# Altium footprint library PcbLib1.PcbLib: 36 footprints (part 2 of 3)
Each footprint in its own frame and in the unit in brackets; x right, y up, seen from the top. Pads: shape width x height; smd on the part's side, far side on the other; paste and mask are expansions set on the pad; w line width, h text height; cw(c..) or ccw(c..) is an arc to the next point about the centre after c.
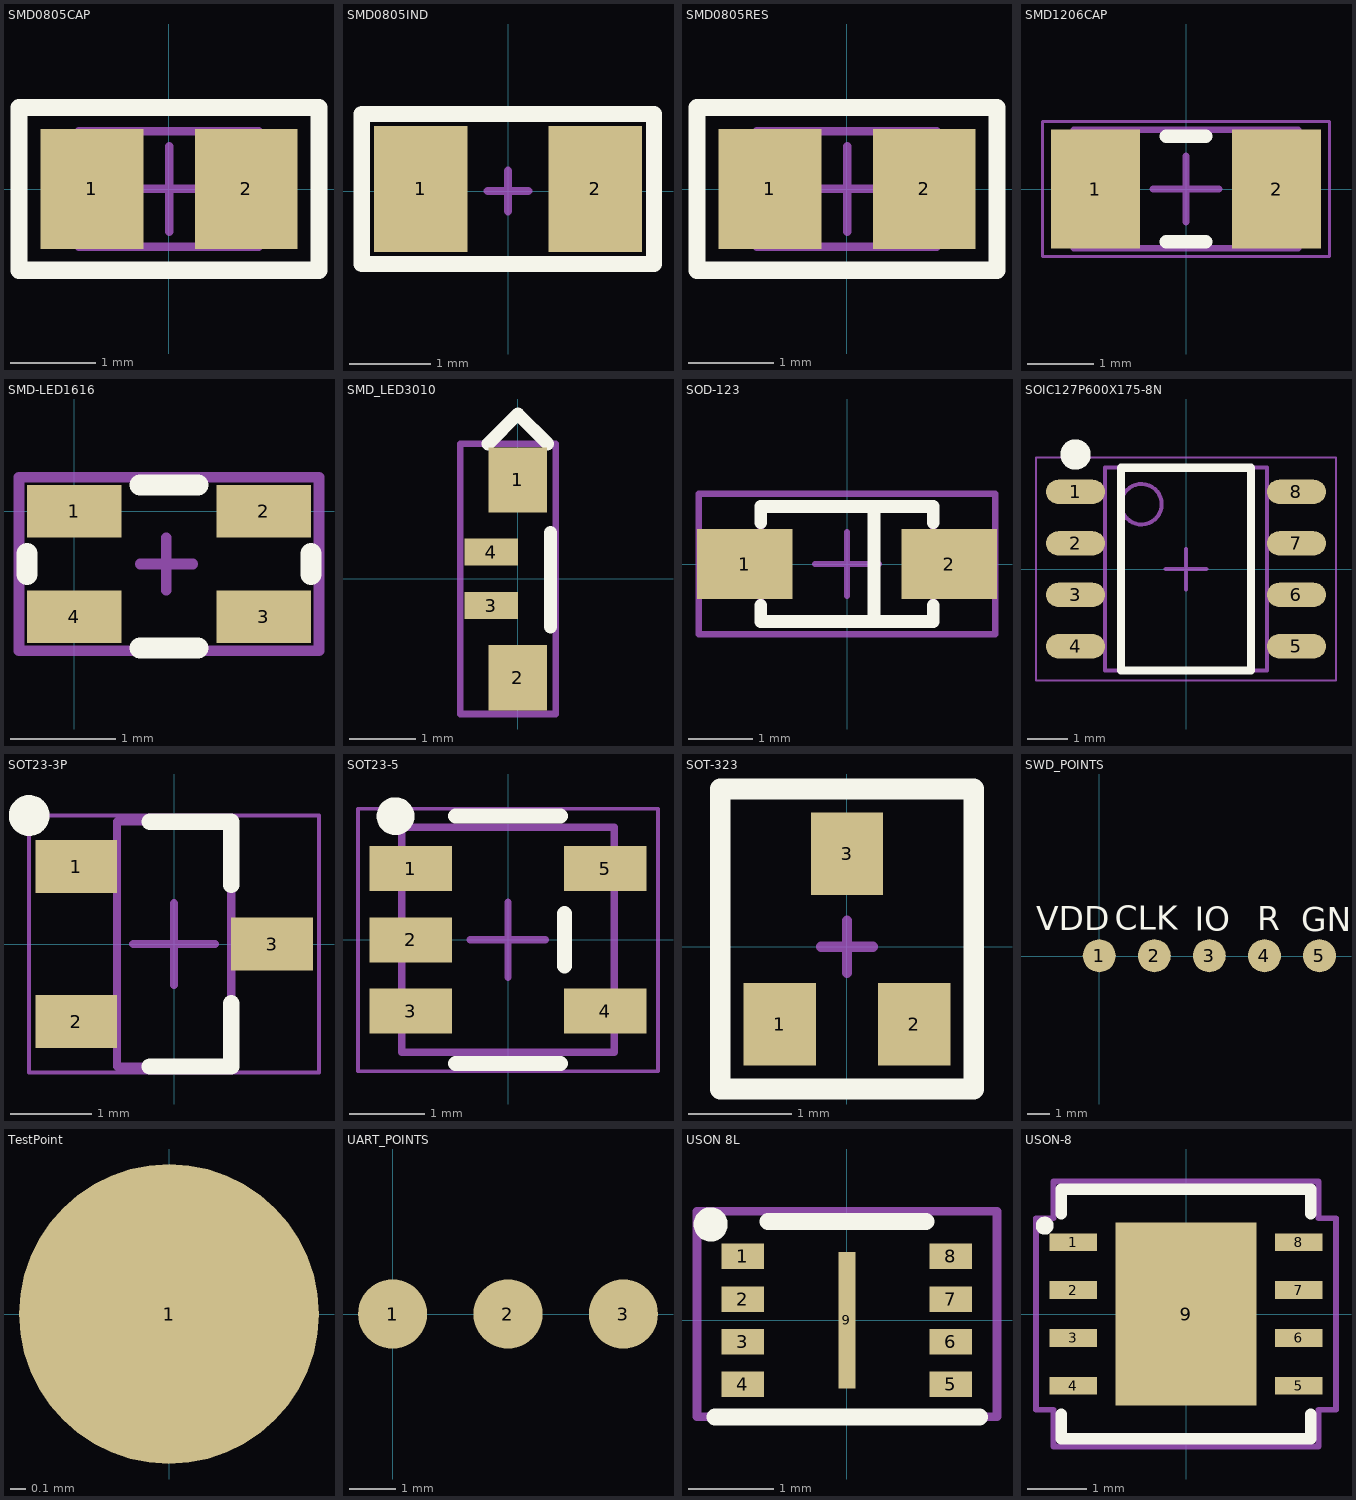
[diagram p1: the footprints below, top view; thin cyan lines are the x and y axes]

## SMD0805CAP [mm] "0805 CAP"
height 0.65
pads (2):
  rect 1.2x1.4 smd: 1(-0.898,0.002) 2(0.902,0.002)
Top Overlay:
  lines w0.2: -1.748,-0.948 1.752,-0.948 1.752,0.952 -1.748,0.952 -1.748,-0.948
Mechanical 13:
  lines w0.1: -1.05,-0.675 -1.05,0.675 1.05,0.675 1.05,-0.675 -1.05,-0.675
Mechanical 15:
  lines w0.1: -0.498,0.002 0.502,0.002 ; 0.002,-0.498 0.002,0.502 ; -1.75,-0.95 -1.75,0.95 1.75,0.95 1.75,-0.95 -1.75,-0.95
3D body "CAPC-0805-T0.75-BN.stp": height 0.75, standoff 0, extent -1.05,-0.675 1.05,0.675

## SMD0805IND [mm]
pads (2):
  rect 1.15x1.55 smd: 1(-1.075,0.025) 2(1.075,0.025)
Top Overlay:
  lines w0.2: -1.803,-0.9 -1.803,0.95 1.8,0.95 1.8,-0.9 -0.153,-0.9 -1.803,-0.9
Mechanical 15:
  lines w0.1: -0.25,0 0.25,0 ; 0,-0.25 0,0.25 ; -1.8,-0.9 1.8,-0.9 1.8,0.95 -1.8,0.95 -1.8,-0.9
3D body "IND_2012-M.step": height 1.1, standoff 0, extent -1.1,-0.725 1.1,0.725

## SMD0805RES [mm] "0805 RES"
height 0.65
pads (2):
  rect 1.2x1.4 smd: 1(-0.898,0.002) 2(0.902,0.002)
Top Overlay:
  lines w0.2: -1.748,-0.948 -1.748,0.952 1.752,0.952 1.752,-0.948 -1.748,-0.948
Mechanical 13:
  lines w0.1: -1.05,-0.675 1.05,-0.675 1.05,0.675 -1.05,0.675 -1.05,-0.675
Mechanical 15:
  lines w0.1: -0.498,0.002 0.502,0.002 ; 0.002,-0.498 0.002,0.502 ; -1.75,-0.95 1.75,-0.95 1.75,0.95 -1.75,0.95 -1.75,-0.95
3D body "RESC-0805.stp": height 0.6, standoff 0, extent -1.05,-0.675 1.05,0.675

## SMD1206CAP [mm] "Chip Capacitor, 2-Leads, Body 3,20x1,60mm, IPC Medium Density"
height 1.8
pads (2):
  rect 1.35x1.8 smd: 1(-1.375,0) 2(1.375,0)
Top Overlay:
  lines w0.2: -0.3,-0.8 0.3,-0.8 ; -0.3,0.8 0.3,0.8
Mechanical 13:
  lines w0.1: -1.7,-0.9 -1.7,0.9 1.7,0.9 1.7,-0.9 -1.7,-0.9
Mechanical 15:
  lines w0.05: -2.175,-1.025 -2.175,1.025 2.175,1.025 2.175,-1.025 -2.175,-1.025
  lines w0.1: -0.5,0 0.5,0 ; 0,-0.5 0,0.5
3D body "CAPC-1206-T1.8-BN.stp": height 1.8, standoff 0, extent -1.7,-0.9 1.7,0.9

## SMD-LED1616 [mm]
pads (4):
  rect 0.9x0.5 smd: 1(0,0) 2(1.8,0) 3(1.8,-1) 4(0,-1)
Top Overlay:
  lines w0.2: -0.45,-0.6 -0.45,-0.4 ; 0.625,-1.3 1.175,-1.3 ; 0.625,0.25 1.175,0.25 ; 2.25,-0.6 2.25,-0.4
Mechanical 15:
  lines w0.1: 0.625,-0.5 1.125,-0.5 ; 0.875,-0.75 0.875,-0.25 ; -0.525,-1.325 2.325,-1.325 2.325,0.325 -0.525,0.325 -0.525,-1.325
3D body "APTF1616LSEKJ3ZGKQBC.stp": height 0.8, standoff 0, extent 0.075,-1.3 1.675,0.3

## SMD_LED3010 [mil]
pads (4):
  rect 35x39 smd paste+0 mask+0: 1(0,59.06) 2(0,-59.06)
  rect 32x16 smd paste+0 mask+0: 3(-16,-16) 4(-16,16)
Top Overlay:
  lines w7.87: -17.72,80.71 0,98.43 17.72,80.71 ; 19.5,-28.58 19.5,-1.97 19.5,27.59
Mechanical 15:
  lines w3.94: -34.45,-80.71 -34.45,80.71 22.64,80.71 22.64,-80.71 -34.45,-80.71
3D body "User Library-LED_RGB _4SMD.step": height 58.17, standoff -0.98, extent -20.67,-58.08 18.7,60.04

## SOD-123 [mm] "SODFL, 2-Leads, Body 1,65x3,60mm, IPC Medium Density"
height 0.98
pads (2):
  rect 1.5x1.1 smd: 1(-1.6,0) 2(1.6,0)
Top Overlay:
  lines w0.2: -1.35,-0.65 -1.35,-0.9 1.35,-0.9 1.35,-0.65 ; -1.35,0.65 -1.35,0.9 1.35,0.9 1.35,0.65 ; 0.425,-0.9 0.425,0.9 0.475,0.9
Mechanical 13:
  lines w0.1: -1.35,-0.9 -1.35,0.9 1.35,0.9 1.35,-0.9 -1.35,-0.9
Mechanical 15:
  lines w0.1: -0.5,0 0.5,0 ; 0,-0.5 0,0.5 ; -2.325,-1.1 -2.325,1.1 2.325,1.1 2.325,-1.1 -2.325,-1.1
3D body "DIODE_SOD123LF_2P9X1P8.step": height 1, standoff 0, extent -1.905,-0.826 1.905,0.826

## SOIC127P600X175-8N [mm] "SOIC, 8-Leads, Body 4,90x3,90mm, Pitch 1,27mm, IPC Medium Density"
height 1.75
pads (8):
  oval 1.45x0.6 smd: 1(-2.725,1.905) 2(-2.725,0.635) 3(-2.725,-0.635) 4(-2.725,-1.905) 5(2.725,-1.905) 6(2.725,-0.635) 7(2.725,0.635) 8(2.725,1.905)
Top Overlay:
  circle w0.4: c-2.725,2.825 r0.175
  lines w0.2: -1.6,-2.5 1.6,-2.5 1.6,2.5 -1.6,2.5 -1.6,-2.5
Mechanical 13:
  circle w0.1: c-1.1,1.6 r0.5
  lines w0.1: -2,-2.5 2,-2.5 2,2.5 -2,2.5 -2,-2.5
Mechanical 15:
  lines w0.05: -3.7,-2.75 3.7,-2.75 3.7,2.75 -3.7,2.75 -3.7,-2.75
  lines w0.1: -0.5,0 0.5,0 ; 0,-0.5 0,0.5
3D body "MS-012AA.stp": height 1.75, standoff 0, extent -3.1,-2.5 3.1,2.5

## SOT23-3P [mm] "SOT23, 3-Leads, IPC Medium Density"
height 1.1
pads (3):
  rect 1x0.65 smd: 1(-1.2,0.95) 2(-1.2,-0.95) 3(1.2,0)
Top Overlay:
  circle w0.25: c-1.775,1.575 r0.125
  lines w0.2: -0.3,-1.5 0.7,-1.5 0.7,-0.725 ; -0.3,1.5 0.7,1.5 0.7,0.725
Mechanical 13:
  lines w0.1: -0.7,-1.5 0.7,-1.5 0.7,1.5 -0.7,1.5 -0.7,-1.5
Mechanical 15:
  lines w0.05: -1.775,-1.575 1.775,-1.575 1.775,1.575 -1.775,1.575 -1.775,-1.575
  lines w0.1: -0.5,0 0.5,0 ; 0,-0.5 0,0.5
3D body "TO-236AB.stp": height 1.1, standoff 0, extent -1.3,-1.5 1.3,1.5

## SOT23-5 [mm]
height 1.45
pads (5):
  rect 1.1x0.6 smd: 1(-1.3,0.95) 2(-1.3,0) 3(-1.3,-0.95) 4(1.3,-0.95) 5(1.3,0.95)
Top Overlay:
  circle w0.254: c-1.5,1.65 r0.125
  lines w0.2: -0.7,-1.65 0.7,-1.65 ; -0.7,1.65 0.7,1.65 ; 0.75,-0.35 0.75,0.35
Mechanical 13:
  lines w0.1: -1.418,-1.5 1.418,-1.5 1.418,1.5 -1.418,1.5 -1.418,-1.5
Mechanical 15:
  lines w0.05: -2,-1.75 2,-1.75 2,1.75 -2,1.75 -2,-1.75
  lines w0.1: -0.5,0 0.5,0 ; 0,-0.5 0,0.5
3D body "SOT23-5 by singlefonts.stp": height 1.2, standoff 0.02, extent -1.418,-1.5 1.418,1.5

## SOT-323 [mm]
pads (3):
  rect 0.7x0.8 smd: 1(-0.65,-0.75) 2(0.65,-0.75) 3(0,0.9)
Top Overlay:
  lines w0.2: -1.225,-1.375 1.225,-1.375 1.225,1.525 -1.225,1.525 -1.225,-0.125 -1.225,-1.375
Mechanical 15:
  lines w0.1: -0.25,0 0.25,0 ; 0,-0.25 0,0.25 ; -1.225,-1.375 1.225,-1.375 1.225,1.525 -1.225,1.525 -1.225,-1.375
3D body "SOT-323_DIO-M.step": height 1, standoff 0, extent -1.1,-1.025 1.1,1.175

## SWD_POINTS [mm]
pads (5):
  round 1.5 smd: 1(0,0.025) 2(2.5,0.025) 3(5,0.025) 4(7.5,0.025) 5(10,0.025)
Top Overlay:
  text "VDD" at -2.871,1.182 h1.1
  text "CLK" at 0.702,1.196 h1.1
  text "IO" at 4.329,1.155 h1.1
  text "R" at 7.166,1.193 h1.1
  text "GND" at 9.178,1.141 h1.1

## TestPoint [mm]
pads (1):
  round 2 smd: 1(0,0)

## UART_POINTS [mm]
pads (3):
  round 1.5 smd: 1(0,0) 2(2.5,0) 3(5,0)

## USON 8L [mm]
pads (9):
  rect 0.5x0.3 smd: 1(-1.22,0.75) 2(-1.22,0.25) 3(-1.22,-0.25) 4(-1.22,-0.75) 5(1.22,-0.75) 6(1.22,-0.25) 7(1.22,0.25) 8(1.22,0.75)
  rect 0.2x1.6 smd: 9(0,0)
Top Overlay:
  circle w0.2: c-1.595,1.125 r0.1
  lines w0.2: -1.545,-1.13 1.555,-1.13 ; -0.925,1.16 0.925,1.16
Mechanical 15:
  lines w0.1: -1.755,-1.13 1.76,-1.13 1.76,1.28 -1.755,1.28 -1.755,-1.13
3D body "User Library-UDFN-8.STEP": height 0.59, standoff -0.01, extent -1,-1 1,1

## USON-8 [mm]
pads (9):
  rect 0.8x0.3 smd: 1(-1.915,1.219) 2(-1.915,0.406) 3(-1.915,-0.406)
  rect 0.8x0.3 smd paste+0: 4(-1.915,-1.219) 5(1.915,-1.219) 6(1.915,-0.406) 7(1.915,0.406) 8(1.915,1.219)
  rect 2.4x3.1 smd: 9(0,0)
Top Overlay:
  circle w0.152: c-2.4,1.5 r0.076
  lines w0.2: -2.121,-1.705 -2.121,-2.121 2.121,-2.121 2.121,-1.705 ; -2.121,1.705 -2.121,2.121 2.121,2.121 2.121,1.705
Mechanical 15:
  lines w0.1: -2.548,-1.626 -2.548,1.626 -2.248,1.626 -2.248,2.248 2.248,2.248 2.248,1.626 2.548,1.626 2.548,-1.626 2.248,-1.626 2.248,-2.248 -2.248,-2.248 -2.248,-1.626 -2.548,-1.626
3D body "USON-8.step": height 0.61, standoff 0, extent -1.994,-1.994 1.994,1.994